# Altium schematic symbol library display.SchLib: 1 symbol
Pins are listed as number, name and electrical type; pins without a type are passive.

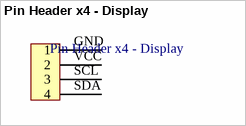
[diagram p0: symbol Pin Header x4 - Display]

## Pin Header x4 - Display
designator Pin Header x4 - Display
footprint dispay (Pin Header x4 - Display)
pins: GND 1, SCL 3, SDA 4, VCC 2